# Altium footprint library ETL_RB.PcbLib: 45 footprints (part 2 of 3)
Each footprint in its own frame and in the unit in brackets; x right, y up, seen from the top. Pads: shape width x height; smd on the part's side, far side on the other; paste and mask are expansions set on the pad; w line width, h text height; cw(c..) or ccw(c..) is an arc to the next point about the centre after c.
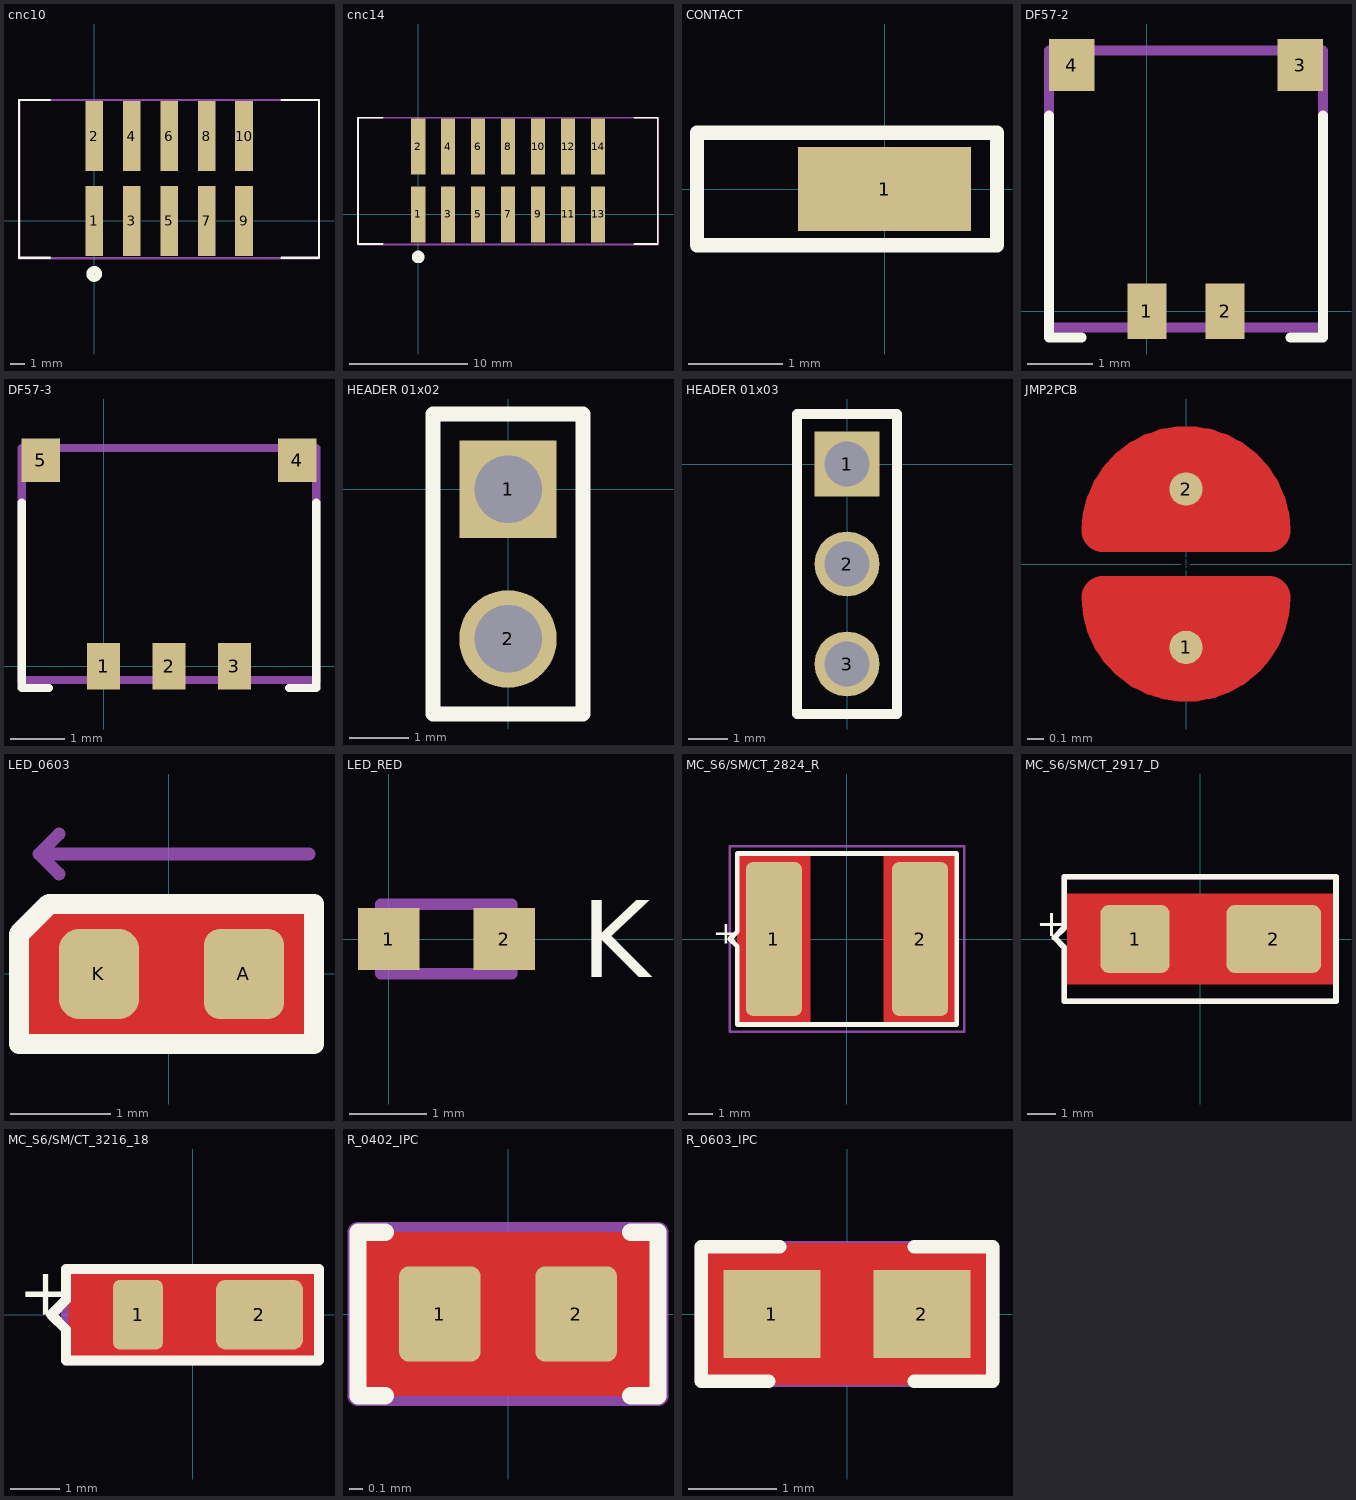
[diagram p1: the footprints below, top view; thin cyan lines are the x and y axes]

## cnc10 [mm]
height 1.6
pads (10):
  rect 1.2x4.75 smd: 1(0,0) 2(0,5.75) 3(2.54,0) 4(2.54,5.75) 5(5.08,0) 6(5.08,5.75) 7(7.62,0) 8(7.62,5.75) 9(10.16,0) 10(10.16,5.75)
Top Overlay:
  circle w0.5: c0,-3.6 r0.283
  lines w0.152: -3,-2.5 -5.1,-2.5 -5.1,8.2 -3,8.2 ; 12.7,-2.5 15.24,-2.5 15.24,8.2 12.7,8.2
Mechanical 15:
  lines w0.152: -5.08,-2.54 -5.08,8.2 15.24,8.2 15.24,-2.54 -5.08,-2.54
3D body "3020-10-0300-00 3D.STEP": height 10.45, standoff 0.11, extent -5.113,-1.839 15.207,7.661

## cnc14 [mm]
height 1.6
pads (14):
  rect 1.2x4.75 smd: 1(0,0) 2(0,5.75) 3(2.54,0) 4(2.54,5.75) 5(5.08,0) 6(5.08,5.75) 7(7.62,0) 8(7.62,5.75) 9(10.16,0) 10(10.16,5.75) 11(12.7,0) 12(12.7,5.75) 13(15.24,0) 14(15.24,5.75)
Top Overlay:
  circle w0.5: c0,-3.6 r0.283
  lines w0.152: -3,-2.5 -5.1,-2.5 -5.1,8.2 -3,8.2 ; 18.3,-2.5 20.3,-2.5 20.3,8.2 18.3,8.2
Mechanical 15:
  lines w0.152: -5.08,-2.54 -5.08,8.2 20.32,8.2 20.32,-2.54 -5.08,-2.54
3D body "3020-14-0300-00 3D.STEP": height 10.46, standoff 0.12, extent -5.154,-1.776 20.246,7.724

## CONTACT [mm]
pads (1):
  rect 1.85x0.9 smd: 1(0,0)
Top Overlay:
  lines w0.15: -2,-0.6 -2,0.6 1.2,0.6 1.2,-0.6 -2,-0.6
3D body "c-1551631-5-c-3d.stp": height 1.24, standoff 0, extent -1.925,-0.5 1.335,0.5

## DF57-2 [mm]
height 1.6
pads (4):
  rect 0.6x0.85 smd: 1(0,0) 2(1.2,0)
  rect 0.7x0.8 smd: 3(2.35,3.775) 4(-1.15,3.775)
Top Overlay:
  lines w0.15: -1.5,3 -1.5,-0.4 -1,-0.4 ; 2.2,-0.4 2.7,-0.4 2.7,3
Mechanical 13:
  lines w0.152: -1.5,-0.25 2.7,-0.25 2.7,4 -1.5,4 -1.5,-0.25
3D body: height 1.6, standoff 0, extent -1.499,0.001 2.699,3.799

## DF57-3 [mm]
height 1.6
pads (5):
  rect 0.6x0.85 smd: 1(0,0) 2(1.2,0) 3(2.4,0)
  rect 0.7x0.8 smd: 4(3.55,3.775) 5(-1.15,3.775)
Top Overlay:
  lines w0.15: -1.5,3 -1.5,-0.4 -1,-0.4 ; 3.4,-0.4 3.9,-0.4 3.9,3
Mechanical 13:
  lines w0.152: -1.5,-0.25 -1.5,4 3.9,4 3.9,-0.25 -1.5,-0.25
3D body: height 1.6, standoff 0, extent -1.499,-0.249 3.899,3.999

## HEADER 01x02 [mil]
pads (2):
  rect 65x65 hole 45: 1(0,0)
  round 65 hole 45: 2(0,-100)
Top Overlay:
  lines w10: -50,-150 50,-150 50,50 -50,50 -50,-150

## HEADER 01x03 [mil]
pads (3):
  rect 65x65 hole 45: 1(0,0)
  round 65 hole 45: 2(0,-100) 3(0,-200)
Top Overlay:
  lines w10: -50,-250 50,-250 50,50 -50,50 -50,-250

## JMP2PCB [mm]
pads (3):
  round 0.2 smd paste-1 mask-1: 1(0,-0.5) 2(0,0.45)
  oval 1.4x1.8 on Top Solder paste-1 mask-1: 9(0,0)
Top Layer:
  lines w0.254: -0.3,0.2 cw(c0,0.2) 0.3,0.2 ; -0.25,-0.45 -0.166,-0.45 ; -0.25,0.45 0.25,0.45 ; 0.25,-0.45 0.166,-0.45 ; -0.3,-0.2 ccw(c0,-0.2) -0.166,-0.45 ; -0.3,-0.2 -0.5,-0.2 ccw(c0,-0.2) -0.433,-0.45 ccw(c0,-0.2) 0.05,-0.697 ccw(c0,-0.2) 0.477,-0.35 ccw(c0,-0.2) 0.5,-0.2 0.3,-0.2 ; -0.3,-0.2 0.3,-0.2 ; -0.166,-0.45 ccw(c0,-0.2) 0,-0.5 ccw(c0,-0.2) 0.166,-0.45 ; -0.166,-0.45 0,-0.45 0.166,-0.45 ; 0.166,-0.45 ccw(c0,-0.2) 0.3,-0.2 ; -0.5,0.2 cw(c0,0.2) 0.5,0.2 -0.5,0.2

## LED_0603 [mm]
pads (2):
  rrect40% 0.8x0.9 smd: A(0.75,0)
  rrect50% 0.8x0.9 smd: K(-0.7,0)
Top Layer:
  region: -0.3,-0.5 -0.3,0.5 -1.1,0.5 -1.3,0.3 -1.3,-0.5
  pour cut-out: 1.5,0.7 -1.2,0.7 -1.5,0.4 -1.5,-0.7 1.5,-0.7
Top Overlay:
  lines w0.203: -1.5,-0.7 1.45,-0.7 1.45,0.7 -1.2,0.7 -1.5,0.4 -1.5,-0.7
Mechanical 1:
  lines w0.127: -1.1,1 -1.3,1.2 ; -1.1,1.4 -1.3,1.2 ; 1.4,1.2 -1.3,1.2
  lines w0.203: -1.45,-0.7 1.45,-0.7 1.45,0.7 -1.15,0.7 -1.45,0.4 -1.45,-0.7
  text "A" at 1.7,-0.3 h0.6
  text "K" at -2.2,-0.3 h0.6
  text ".Designator" at -1.143,-0.254 h0.51
3D body "CAPC1608X06M.step": height 0.55, standoff 0, extent -0.875,-0.475 0.875,0.475

## LED_RED [mm] "LTST-C194KRKT"
pads (2):
  rect 0.8x0.8 smd: 1(0,0) 2(1.5,0)
Top Overlay:
  text "K" at 2.5,-0.5 h1
Mechanical 13:
  lines w0.152: -0.1,-0.45 -0.1,0.45 1.6,0.45 1.6,-0.45 -0.1,-0.45
3D body: height 0.6, standoff 0, extent -0.099,-0.449 1.599,0.449

## MC_S6/SM/CT_2824_R [mm]
pads (2):
  rrect25% 2.3x6.3 smd: 1(-3,0) 2(3,0)
Top Layer:
  pour cut-out: 1.5,3.5 1.5,-3.5 4.5,-3.5 4.5,3.5
  pour cut-out: -4.5,3.5 -4.5,-3.5 -1.5,-3.5 -1.5,3.5
Top Overlay:
  lines w0.203: -4.8,0 -4.5,-0.3 -4.5,-3.5 4.5,-3.5 4.5,3.5 -4.5,3.5 -4.5,0.3 -4.8,0
  text "+" at -5.5,-0.2 h0.95
Mechanical 1:
  lines w0.102: -4.8,-3.8 4.8,-3.8 4.8,3.8 -4.8,3.8 -4.8,-3.8
  text "+" at -4.5,-0.3 h0.95
  text ".Designator" at -4.064,-1.143 h2.03

## MC_S6/SM/CT_2917_D [mm]
pads (2):
  rrect25% 2.45x2.4 smd: 1(-2.3,0)
  rrect25% 3.35x2.4 smd: 2(2.6,0)
Top Layer:
  pour cut-out: -4.7,-1.6 4.7,-1.6 4.7,1.6 -4.7,1.6
  region: -4.1,1.2 -4.4,0.9 -4.4,-0.9 -4.1,-1.2 -1.4,-1.2 -1.4,1.2
Top Overlay:
  lines w0.203: -5.15,0.05 -4.8,-0.3 -4.8,-2.2 4.8,-2.2 4.8,2.2 -4.8,2.2 -4.8,0.4 -5.15,0.05
  text "+" at -5.8,0.1 h0.95
Mechanical 1:
  lines w0.203: -5.15,0.05 -4.8,0.4 -4.8,1.1 -4.8,2.2 4.8,2.2 4.8,-2.2 -4.8,-2.2 -4.8,-1.1 -4.8,-0.3 -5.15,0.05
  text ".Designator" at -2.4,-1.2 h1.52
  text "+" at -4.6,-0.4 h0.95
3D body "T495D476K020ATE100.step": height 3.11, standoff 0.01, extent -3.8,-2.3 3.8,2.3

## MC_S6/SM/CT_3216_18 [mm]
pads (2):
  rrect25% 1x1.4 smd: 1(-1.1,0)
  rrect25% 1.75x1.4 smd: 2(1.35,0)
Top Layer:
  pour cut-out: -2.5,-0.9 2.5,-0.9 2.5,0.9 -2.5,0.9
  region: -2.3,-0.5 -2.3,0.5 -2.1,0.7 -1.1,0.7 -1.1,-0.7 -2.1,-0.7
Top Overlay:
  lines w0.203: 2.55,-0.925 -2.55,-0.925 -2.55,-0.3 -2.85,0 -2.55,0.3 -2.55,0.925 2.55,0.925 2.55,-0.9
  text "+" at -3.5,0 h0.95
Mechanical 1:
  lines w0.203: 2.55,-0.925 -2.55,-0.925 -2.55,-0.3 -2.55,0.925 2.55,0.925 2.55,-0.9
  text "+" at -2.3,-0.5 h0.95
  text ".Designator" at -0.1,-0.1 h1.52
3D body "T491A475K016AT.step": height 1.81, standoff 0.01, extent -1.7,-0.9 1.7,0.9

## PCBComponent_1 [mm]

## R_0402_IPC [mm]
pads (2):
  rrect25% 0.6x0.7 smd: 1(-0.5,0) 2(0.5,0)
Top Layer:
  pour cut-out: -1.1,0.6 -1.1,-0.6 1.1,-0.6 1.1,0.6
Top Overlay:
  lines w0.127: -0.9,-0.6 -1.1,-0.6 -1.1,0.6 -0.9,0.6 ; 0.9,-0.6 1.1,-0.6 1.1,0.6 0.9,0.6
Mechanical 1:
  lines w0.152: -1.1,-0.6 -1.1,0.6 1.1,0.6 1.1,-0.6 -1.1,-0.6
  text ".Designator" at -0.9,-0.4 h0.5
3D body "RES0402.stp": height 0.3, standoff 0, extent -0.5,-0.25 0.5,0.25

## R_0603_IPC [mm]
pads (2):
  rect 1.1x1 smd: 1(-0.85,0) 2(0.85,0)
Top Layer:
  pour cut-out: -1.7,-0.8 1.7,-0.8 1.7,0.8 -1.7,0.8
Top Overlay:
  lines w0.152: -1.65,-0.762 -0.889,-0.762 ; -1.65,-0.75 -1.65,0.762 -0.762,0.762 ; 0.762,-0.762 1.651,-0.762 ; 0.762,0.762 1.651,0.762 ; 1.65,-0.75 1.65,0.75
Mechanical 1:
  lines w0.152: -1.65,-0.75 1.65,-0.75 1.65,0.75 -1.65,0.75 -1.65,-0.75
  text ".Designator" at -1.2,-0.3 h0.7
3D body "RESC1608X06M.step": height 0.55, standoff 0, extent -0.875,-0.475 0.875,0.475